# Altium footprint library LIB-Footprints.PcbLib: 10 footprints
Each footprint in its own frame and in the unit in brackets; x right, y up, seen from the top. Pads: shape width x height; smd on the part's side, far side on the other; paste and mask are expansions set on the pad; w line width, h text height; cw(c..) or ccw(c..) is an arc to the next point about the centre after c.
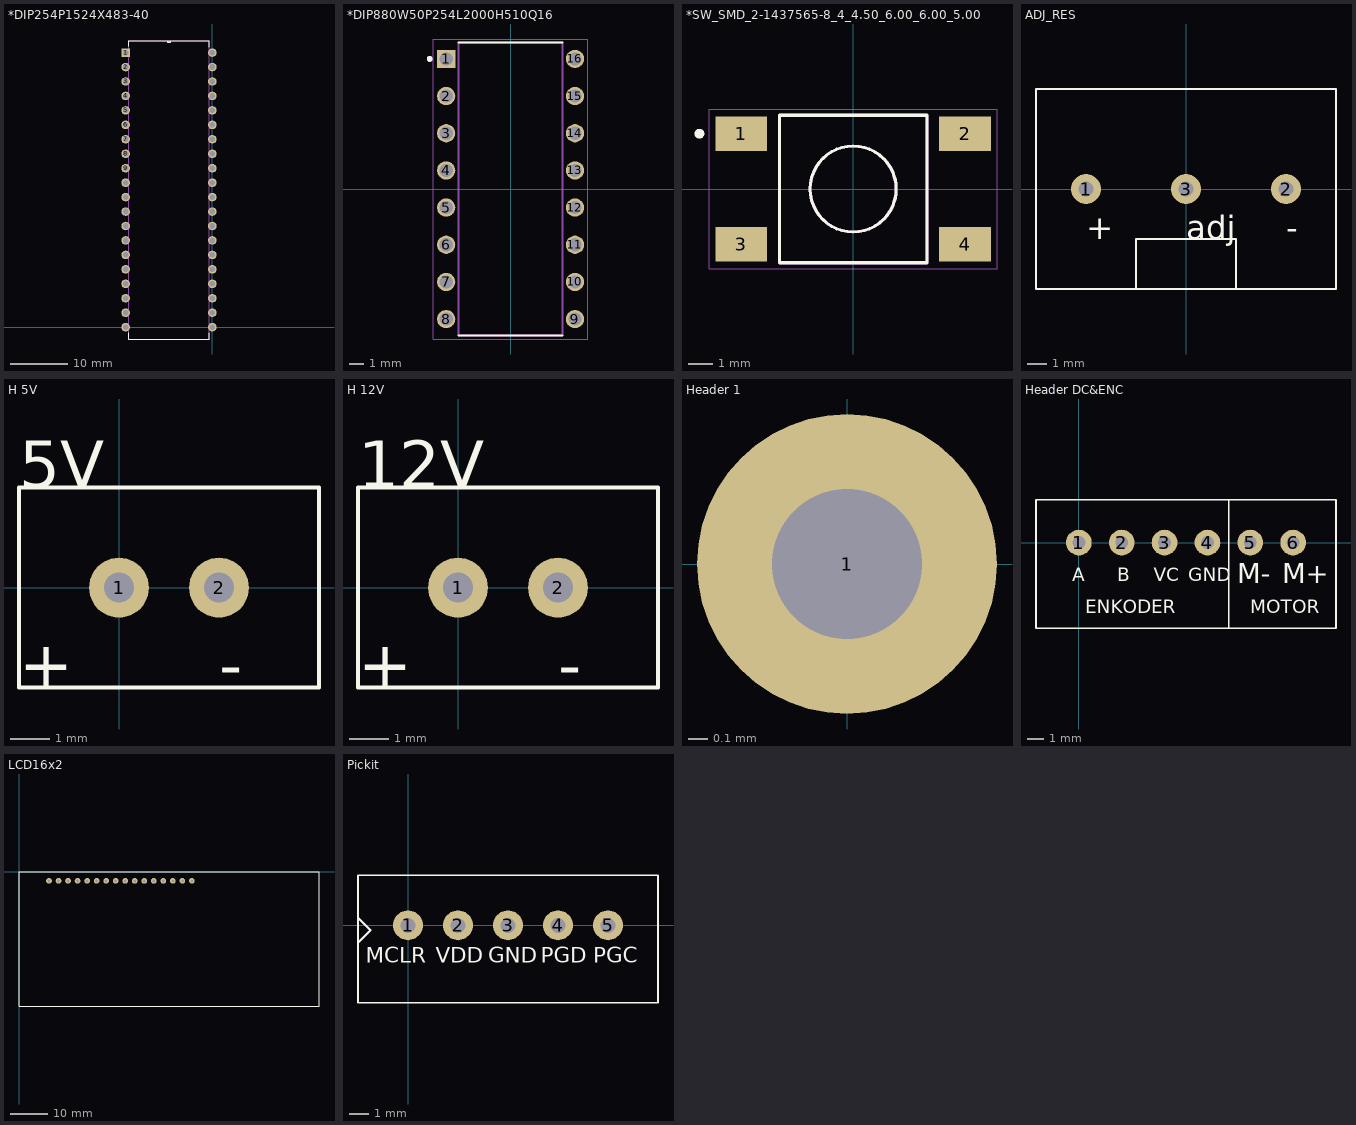
[diagram p0: the footprints below, top view; thin cyan lines are the x and y axes]

## *DIP254P1524X483-40 [mil]
pads (40):
  rect 59x59 hole 39: 1(-600,1900)
  round 59 hole 39: 2(-600,1800) 3(-600,1700) 4(-600,1600) 5(-600,1500) 6(-600,1400) 7(-600,1300) 8(-600,1200) 9(-600,1100) 10(-600,1000) 11(-600,900) 12(-600,800) 13(-600,700) 14(-600,600) 15(-600,500) 16(-600,400) 17(-600,300) 18(-600,200) 19(-600,100) 20(-600,0) 21(0,0) 22(0,100) 23(0,200) 24(0,300) 25(0,400) 26(0,500) 27(0,600) 28(0,700) 29(0,800) 30(0,900) 31(0,1000) 32(0,1100) 33(0,1200) 34(0,1300) 35(0,1400) 36(0,1500) 37(0,1600) 38(0,1700) 39(0,1800) 40(0,1900)
Top Overlay:
  lines w0: -312,1982 ccw(c-300,1982) -288,1982
  lines w6: -580,-38 -580,-82 -20,-82 -20,-38 ; -580,1943 -580,1982 -312,1982 -288,1982 -20,1982 -20,1938
Mechanical 4:
  drawing of 334 lines, arcs and shapes, not listed

## *DIP880W50P254L2000H510Q16 [mm]
pads (16):
  rect 1.25x1.25 hole 0.9: 1(-4.4,8.89)
  round 1.25 hole 0.9: 2(-4.4,6.35) 3(-4.4,3.81) 4(-4.4,1.27) 5(-4.4,-1.27) 6(-4.4,-3.81) 7(-4.4,-6.35) 8(-4.4,-8.89) 9(4.4,-8.89) 10(4.4,-6.35) 11(4.4,-3.81) 12(4.4,-1.27) 13(4.4,1.27) 14(4.4,3.81) 15(4.4,6.35) 16(4.4,8.89)
Top Overlay:
  circle w0.2: c-5.525,8.89 r0.1
  lines w0.127: -3.55,-10 3.55,-10 ; -3.55,10 3.55,10
Mechanical 4:
  circle w0.2: c-5.525,8.89 r0.1
  circle w0.2: c-5.525,8.89 r0.1
  lines w0.127: -3.55,-10 3.55,-10 ; -3.55,-10 -3.55,10 ; -3.55,-10 3.55,-10 ; -3.55,-10 -3.55,10 ; -3.55,10 3.55,10 ; -3.55,10 3.55,10 ; 3.55,-10 3.55,10 ; 3.55,-10 3.55,10
Mechanical 16:
  lines w0.05: -5.275,-10.25 5.275,-10.25 5.275,10.25 -5.275,10.25 -5.275,-10.25

## *SW_SMD_2-1437565-8_4_4.50_6.00_6.00_5.00 [mm]
pads (4):
  rect 2.1x1.4 smd: 1(-4.55,2.25) 2(4.55,2.25) 3(-4.55,-2.25) 4(4.55,-2.25)
Top Overlay:
  circle w0.2: c-6.25,2.25 r0.1
  circle w0.127: c0,0 r1.75
  lines w0.127: -3,-3 3,-3 3,3 -3,3 -3,-3
Mechanical 4:
  circle w0.127: c0,0 r1.75
  circle w0.127: c0,0 r1.75
  lines w0.127: -3,-3 -3,3 ; -3,-3 3,-3 ; -3,-3 -3,3 ; -3,-3 3,-3 ; -3,3 3,3 ; -3,3 3,3 ; 3,-3 3,3 ; 3,-3 3,3
Mechanical 16:
  lines w0.05: -5.85,-3.25 -5.85,3.25 5.85,3.25 5.85,-3.25 -5.85,-3.25

## ADJ_RES [mil] "Promenljivi Otpornik"
pads (3):
  round 60 hole 30: 1(-200,0) 2(200,0) 3(0,0)
Top Overlay:
  lines w3.94: -100,-200 -100,-100 100,-100 100,-200 ; -300,-200 300,-200 300,200 -300,200 -300,-200
  text "adj" at 0,-100 h47.24
  text "-" at 200,-100 h47.24
  text "+" at -200,-100 h47.24

## H 5V [mil] "prikljucak 5 volti"
pads (2):
  round 60 hole 30: 1(0,0) 2(100,0)
Top Overlay:
  lines w3.94: -100,-100 -100,100 200,100 200,-100 -100,-100
  text "5V" at -100,100 h47.24
  text "+" at -100,-100 h47.24
  text "-" at 100,-100 h47.24

## H 12V [mil] "prikljucak 12V"
pads (2):
  round 60 hole 30: 1(0,0) 2(100,0)
Top Overlay:
  lines w3.94: -100,-100 -100,100 200,100 200,-100 -100,-100
  text "12V" at -100,100 h47.24
  text "+" at -100,-100 h47.24
  text "-" at 100,-100 h47.24

## Header 1 [mil]
pads (1):
  round 60 hole 30: 1(0,0)

## Header DC&ENC [mil] "Prikljucak za dc motor i enkoder"
pads (6):
  round 60 hole 30: 1(0,0) 2(100,0) 3(200,0) 4(300,0) 5(400,0) 6(500,0)
Top Overlay:
  lines w3.94: 350,-200 350,100 ; -100,-200 -100,100 600,100 600,-200 -100,-200
  text "GND" at 255,-90 h31.5
  text "VC" at 175,-90 h31.5
  text "B" at 90,-90 h31.5
  text "A" at -15,-90 h31.5
  text "ENKODER" at 15,-165 h31.5
  text "MOTOR" at 400,-165 h31.5
  text "M-" at 370,-95 h47.24
  text "M+" at 475,-95 h47.24

## LCD16x2 [mil] "LCD16x2"
pads (16):
  round 60 hole 30: 1(314.96,-98.43) 2(414.96,-98.43) 3(514.96,-98.43) 4(614.96,-98.43) 5(714.96,-98.43) 6(814.96,-98.43) 7(914.96,-98.43) 8(1014.96,-98.43) 9(1114.96,-98.43) 10(1214.96,-98.43) 11(1314.96,-98.43) 12(1414.96,-98.43) 13(1514.96,-98.43) 14(1614.96,-98.43) 15(1714.96,-98.43) 16(1814.96,-98.43)
Top Overlay:
  lines w3.94: 0,-1417.32 0,0 3149.61,0 3149.61,-1417.32 0,-1417.32

## Pickit [mil] "Programator"
pads (5):
  round 60 hole 30: 1(0,0) 2(100,0) 3(200,0) 4(300,0) 5(400,0)
Top Overlay:
  lines w3.94: -100,-35 -75,-10 -100,15 ; -100,-155 -100,100 500,100 500,-155 305,-155 95,-155 -100,-155
  text "MCLR" at -85,-75 h31.5
  text "VDD" at 55,-75 h31.5
  text "GND" at 160,-75 h31.5
  text "PGD" at 265,-75 h31.5
  text "PGC" at 370,-75 h31.5